# Altium footprint library RCDQLY.PCBLIB: 149 footprints (part 2 of 10)
Each footprint in its own frame and in the unit in brackets; x right, y up, seen from the top. Pads: shape width x height; smd on the part's side, far side on the other; paste and mask are expansions set on the pad; w line width, h text height; cw(c..) or ccw(c..) is an arc to the next point about the centre after c.
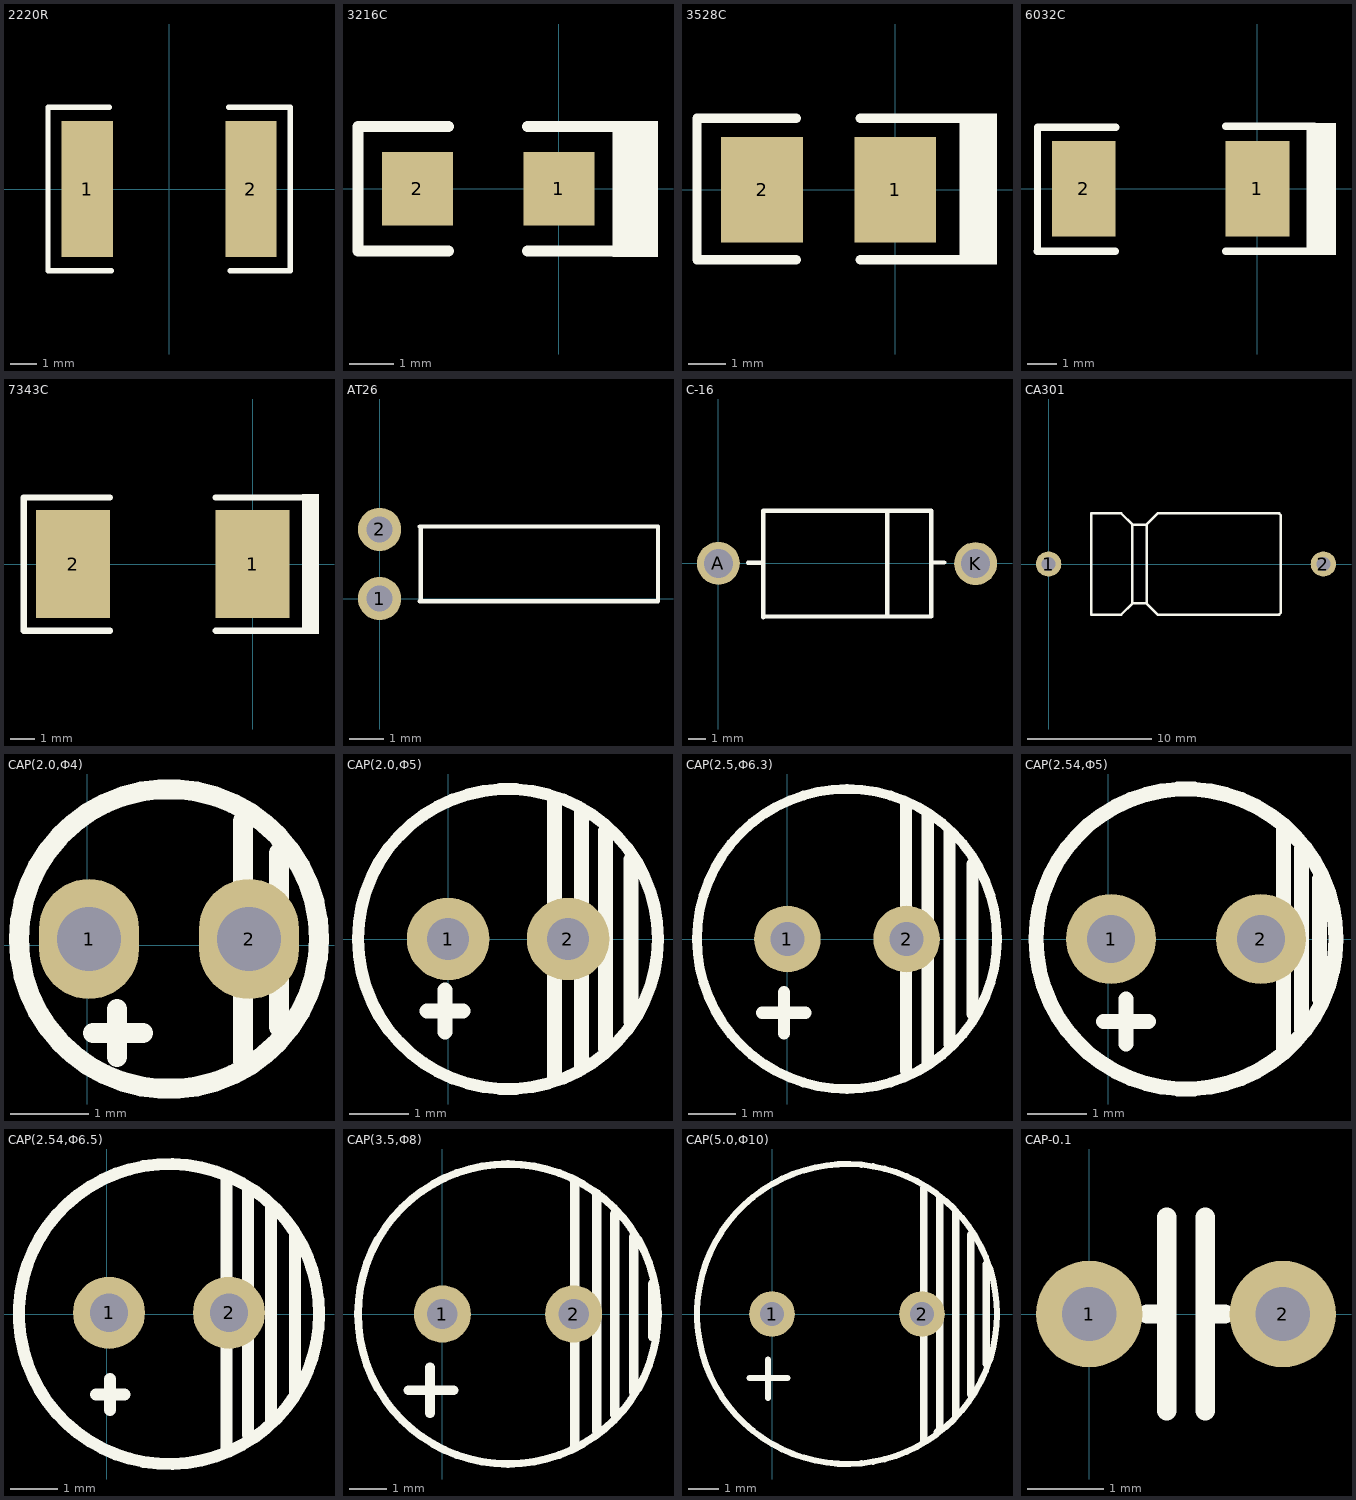
[diagram p1: the footprints below, top view; thin cyan lines are the x and y axes]

## 2220R [mil]
pads (2):
  rect 75x200 smd: 1(-120,0) 2(120,0)
TopOverlay:
  lines w8: -87.5,120 -177.5,120 -177.5,-120 -85,-120 ; 87.5,120 177.5,120 177.5,-120 90,-120

## 3216C [mm]
pads (2):
  rect 1.6x1.65 smd: 1(0,0) 2(-3.175,0)
TopOverlay:
  rectangle: 1.206,-1.537 2.222,1.524
  lines w0.254: -2.476,-1.397 -4.508,-1.397 -4.508,1.397 -2.476,1.397 ; -0.699,-1.397 1.206,-1.397 ; -0.699,1.397 1.206,1.397

## 3528C [mm]
pads (2):
  rect 2.2x2.85 smd: 1(0,0) 2(-3.581,0)
TopOverlay:
  rectangle: 1.727,-2.015 2.743,2.057
  lines w0.254: -2.667,-1.88 -5.334,-1.88 -5.334,1.93 -2.667,1.93 ; -0.94,-1.88 1.727,-1.88 ; -0.94,1.93 1.727,1.93

## 6032C [mm]
pads (2):
  rect 2.2x3.3 smd: 1(0,0) 2(-6,0)
TopOverlay:
  rectangle: 1.699,-2.29 2.715,2.28
  lines w0.254: -7.605,-2.159 -4.905,-2.159 ; -7.6,-2.133 -7.6,2.133 -4.9,2.133 ; -1.095,-2.159 1.831,-2.159 ; -1.095,2.159 1.958,2.159

## 7343C [mm]
pads (2):
  rect 3x4.4 smd: 1(0,0) 2(-7.3,0)
TopOverlay:
  rectangle: 2.008,-2.835 2.7,2.845
  lines w0.254: -5.8,-2.708 -9.308,-2.708 -9.308,2.708 -5.8,2.708 ; -1.5,-2.708 2.008,-2.708 ; -1.5,2.708 2.008,2.708

## AT26 [mil]
pads (2):
  round 50 hole 30: 1(0,0) 2(0,80)
TopOverlay:
  rectangle: 44.72,-3.26 50,83.35
  lines w5: 46.49,-3.26 322.08,-3.26 322.08,83.35 46.49,83.35

## C-16 [mm]
pads (2):
  round 2.5 hole 1.7: A(0,0) K(15,-0.013)
TopOverlay:
  lines w0.254: 1.727,0.025 2.616,0.025 ; 2.616,-3.15 2.616,3.073 12.421,3.073 12.421,-3.099 2.667,-3.099 ; 9.855,-3.099 9.855,3.073 ; 12.421,0.051 13.183,0.051

## CA301 [mil]
pads (2):
  round 80 hole 45: 1(0,0) 2(870,0)
TopOverlay:
  lines w8: 265,-115 265,-125 ; 265,-125 310,-125 ; 265,-125 265,125 ; 265,-125 230,-160 135,-160 135,160 230,160 265,125 ; 265,125 305,125 310,125 ; 310,-125 345,-160 730,-160 735,-155 735,155 730,160 345,160 310,125 ; 310,-125 310,125

## CAP(2.0,Ф4) [mil]
pads (2):
  oval 50x60 hole 32: 1(1,3) 2(81,3)
TopOverlay:
  circle w10: c41,3 r75
  lines w10: 3,-44 28,-44 ; 15,-56 15,-32 ; 78,-58 78,62 ; 96,-41 96,46

## CAP(2.0,Ф5) [mil]
pads (2):
  round 55 hole 28: 1(0,0) 2(80,0)
TopOverlay:
  circle w8: c40,0 r100
  lines w10: -14,-48 10,-48 ; -2,-62 -2,-34 ; 71,-93 71,92 ; 89,-86 89,86 ; 105,-73 105,72 ; 122,-55 122,53

## CAP(2.5,Ф6.3) [mil]
pads (2):
  round 55 hole 28: 1(0,0) 2(98.43,0)
TopOverlay:
  circle w8: c49.21,0 r124.02
  lines w10: -21,-61 15,-61 ; -3,-78 -3,-44 ; 98,-109 98,112 ; 116,-102 116,103 ; 134,-87 134,89 ; 153,-62 153,62

## CAP(2.54,Ф5) [mil]
pads (2):
  round 60 hole 32: 1(2,0) 2(102,0)
TopOverlay:
  circle w10: c52,0 r100
  lines w10: -3,-55 27,-55 ; 12,-70 12,-40 ; 117,-75 117,75 ; 129,-60 129,60 ; 141,-40 141,40

## CAP(2.54,Ф6.5) [mil]
pads (2):
  round 60 hole 32: 1(2,1) 2(102,1)
TopOverlay:
  circle w10: c52,0 r125
  lines w10: -9,-67 15,-67 ; 3,-80 3,-54 ; 100,-112 100,115 ; 118,-101 118,102 ; 137,-90 137,90 ; 157,-65 157,65

## CAP(3.5,Ф8) [mil]
pads (2):
  round 60 hole 32: 1(0,0) 2(137.79,0)
TopOverlay:
  circle w8: c68.9,0 r157.48
  lines w10: -36,-80 12,-80 ; -13,-104 -13,-56 ; 139,-137 139,140 ; 162,-123 162,126 ; 181,-106 181,105 ; 201,-82 201,81 ; 221,-24 221,32

## CAP(5.0,Ф10) [mil]
pads (2):
  round 60 hole 32: 1(0,0) 2(196.85,0)
TopOverlay:
  circle w8: c98.43,0 r196.85
  lines w8: -29.43,-84 20.57,-84 ; -5,-110 -5,-60
  lines w10: 199,-167 199,165 ; 217,-155 220,-152 220,153 ; 241,-133 241,134 ; 261,-105 261,104 ; 281,-65 281,65

## CAP-0.1 [mil]
pads (2):
  round 55 hole 28: 1(0,0) 2(100,0)
TopOverlay:
  lines w10: 30,0 40,0 ; 40,-50 40,50 ; 60,-50 60,50 ; 60,0 70,0